# EAGLE library part NAU7802SGI (library sapflow)
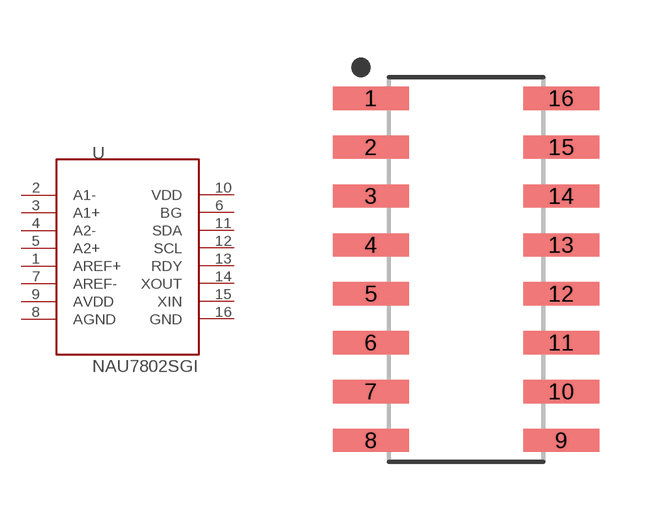
[diagram p1: symbol with the pads of SOIC127P600X175-16N; footprint SOIC127P600X175-16N]

Designator prefix -

## NAU7802SGI  [SOIC127P600X175-16N]
1  AREF+  in
2  A1-  in
3  A1+  in
4  A2-  in
5  A2+  in
6  BG  hiz
7  AREF-  in
8  AGND  pwr
9  AVDD  out
10  VDD  pwr
11  SDA  oc
12  SCL  in
13  RDY  oc
14  XOUT  out
15  XIN  in
16  GND  pwr

## Footprint SOIC127P600X175-16N (pad centres in mm)
16-SOIC, 1.27 mm pitch, 6.00 mm span, 9.90 X 3.90 X 1.75 mm body 16-pin SOIC package with 1.27 mm pitch, 6.00 mm span with body size 9.90 X 3.90 X 1.75 mm
smd 1.968 x 0.602: 1 -2.473,4.445; 2 -2.473,3.175; 3 -2.473,1.905; 4 -2.473,0.635; 5 -2.473,-0.635; 6 -2.473,-1.905; 7 -2.473,-3.175; 8 -2.473,-4.445; 9 2.473,-4.445; 10 2.473,-3.175; 11 2.473,-1.905; 12 2.473,-0.635; 13 2.473,0.635; 14 2.473,1.905; 15 2.473,3.175; 16 2.473,4.445